# EAGLE library part M09 (library custom)
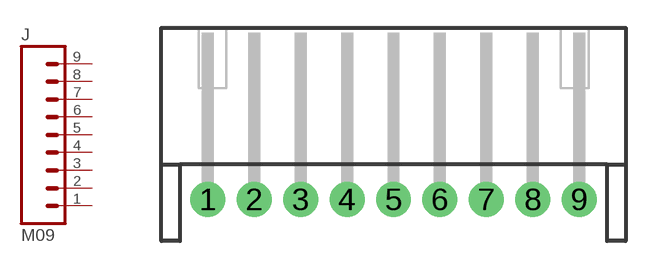
[diagram p121: symbol with the pads of S9B-XH-A; footprint S9B-XH-A]

Designator prefix J

## M09  [S9B-XH-A]
1  1  pas
2  2  pas
3  3  pas
4  4  pas
5  5  pas
6  6  pas
7  7  pas
8  8  pas
9  9  pas

## Footprint S9B-XH-A (pad centres in mm)
drill 1.016 pad 1.88: 1 0.04,0; 2 2.54,0; 3 5.04,0; 4 7.54,0; 5 10.04,0; 6 12.54,0; 7 15.04,0; 8 17.54,0; 9 20.04,0